# EAGLE library part XF2M-2215-1A (library OMRON_ELECTRONIC_COMPONENTS_By_element14_Batch_1)
FFC/FPC CONNECTOR, RECEPTACLE 22POS 1ROW
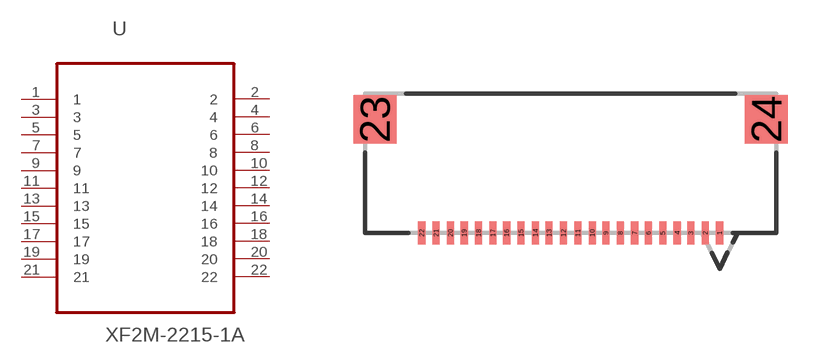
[diagram p5: symbol with the pads of OMRON_XF2M-2215-1A; footprint OMRON_XF2M-2215-1A]

Designator prefix U

## XF2M-2215-1A (MPN: XF2M-2215-1A; OC_FARNELL: 1391154; OC_NEWARK: 05M2014; PACKAGE: FFC/FPC CONNECTOR, RECEPTACLE 22POS 1ROW; SUPPLIER: OMRON ELECTRONIC COMPONENTS)  [OMRON_XF2M-2215-1A]
1  1  pas
2  2  pas
3  3  pas
4  4  pas
5  5  pas
6  6  pas
7  7  pas
8  8  pas
9  9  pas
10  10  pas
11  11  pas
12  12  pas
13  13  pas
14  14  pas
15  15  pas
16  16  pas
17  17  pas
18  18  pas
19  19  pas
20  20  pas
21  21  pas
22  22  pas

## Footprint OMRON_XF2M-2215-1A (pad centres in mm)
smd 0.254 x 0.813: 1 5.258,2.438; 2 4.75,2.438; 3 4.242,2.438; 4 3.759,2.438; 5 3.251,2.438; 6 2.743,2.438; 7 2.261,2.438; 8 1.753,2.438; 9 1.245,2.438; 10 0.762,2.438; 11 0.254,2.438; 12 -0.254,2.438; 13 -0.762,2.438; 14 -1.245,2.438; 15 -1.753,2.438; 16 -2.261,2.438; 17 -2.743,2.438; 18 -3.251,2.438; 19 -3.759,2.438; 20 -4.242,2.438; 21 -4.75,2.438; 22 -5.258,2.438
smd 1.524 x 1.702: 23 -6.909,6.452; 24 6.909,6.452